# EAGLE library part VME2 (library connect)
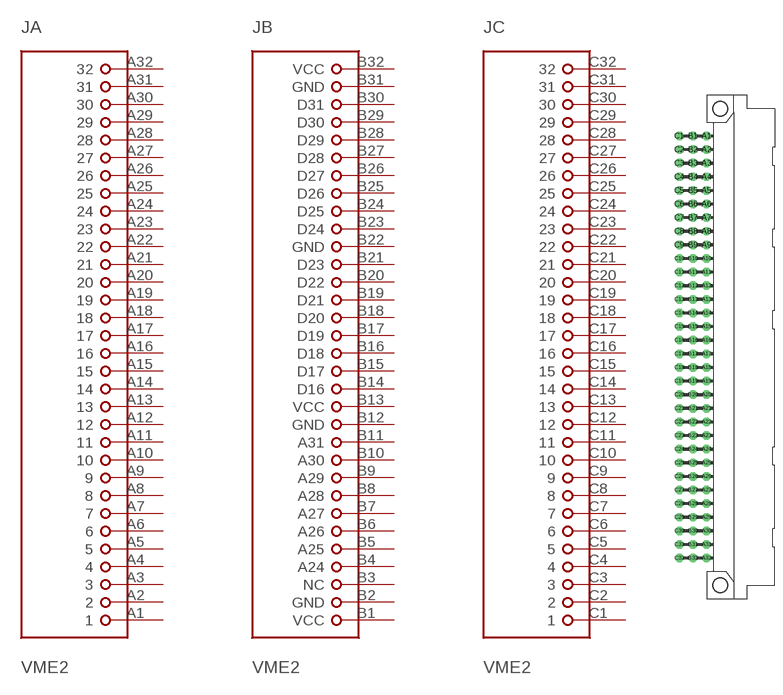
[diagram p17: symbol with the pads of VG96M/90; footprint VG96M/90]

Designator prefix J; gates A=VME2A B=VME2B C=VME2C

## VME2  [VG96M/90]
A1  A:1
A2  A:2
A3  A:3
A4  A:4
A5  A:5
A6  A:6
A7  A:7
A8  A:8
A9  A:9
A10  A:10
A11  A:11
A12  A:12
A13  A:13
A14  A:14
A15  A:15  pwr
A16  A:16
A17  A:17
A18  A:18
A19  A:19
A20  A:20
A21  A:21
A22  A:22
A23  A:23
A24  A:24
A25  A:25
A26  A:26
A27  A:27
A28  A:28
A29  A:29
A30  A:30
A31  A:31
A32  A:32
B1  B:VCC  pwr
B2  B:GND  pwr
B3  B:NC  nc
B4  B:A24  in
B5  B:A25  in
B6  B:A26  in
B7  B:A27  in
B8  B:A28  in
B9  B:A29  in
B10  B:A30  in
B11  B:A31  in
B12  B:GND  pwr
B13  B:VCC  pwr
B14  B:D16  hiz
B15  B:D17  hiz
B16  B:D18  hiz
B17  B:D19  hiz
B18  B:D20  hiz
B19  B:D21  hiz
B20  B:D22  hiz
B21  B:D23  hiz
B22  B:GND  pwr
B23  B:D24  hiz
B24  B:D25  hiz
B25  B:D26  hiz
B26  B:D27  hiz
B27  B:D28  hiz
B28  B:D29  hiz
B29  B:D30  hiz
B30  B:D31  hiz
B31  B:GND  pwr
B32  B:VCC  pwr
C1  C:1
C2  C:2
C3  C:3
C4  C:4
C5  C:5
C6  C:6
C7  C:7
C8  C:8
C9  C:9
C10  C:10
C11  C:11
C12  C:12
C13  C:13
C14  C:14
C15  C:15
C16  C:16
C17  C:17
C18  C:18
C19  C:19
C20  C:20
C21  C:21
C22  C:22
C23  C:23
C24  C:24
C25  C:25
C26  C:26
C27  C:27
C28  C:28
C29  C:29
C30  C:30
C31  C:31
C32  C:32

## Footprint VG96M/90 (pad centres in mm)
drill 1.016 pad 1.575 octagon: A1 -5.08,39.37; A2 -5.08,36.83; A3 -5.08,34.29; A4 -5.08,31.75; A5 -5.08,29.21; A6 -5.08,26.67; A7 -5.08,24.13; A8 -5.08,21.59; A9 -5.08,19.05; A10 -5.08,16.51; A11 -5.08,13.97; A12 -5.08,11.43; A13 -5.08,8.89; A14 -5.08,6.35; A15 -5.08,3.81; A16 -5.08,1.27; A17 -5.08,-1.27; A18 -5.08,-3.81; A19 -5.08,-6.35; A20 -5.08,-8.89; A21 -5.08,-11.43; A22 -5.08,-13.97; A23 -5.08,-16.51; A24 -5.08,-19.05; A25 -5.08,-21.59; A26 -5.08,-24.13; A27 -5.08,-26.67; A28 -5.08,-29.21; A29 -5.08,-31.75; A30 -5.08,-34.29; A31 -5.08,-36.83; A32 -5.08,-39.37; B1 -7.62,39.37; B2 -7.62,36.83; B3 -7.62,34.29; B4 -7.62,31.75; B5 -7.62,29.21; B6 -7.62,26.67; B7 -7.62,24.13; B8 -7.62,21.59; B9 -7.62,19.05; B10 -7.62,16.51; B11 -7.62,13.97; B12 -7.62,11.43; B13 -7.62,8.89; B14 -7.62,6.35; B15 -7.62,3.81; B16 -7.62,1.27; B17 -7.62,-1.27; B18 -7.62,-3.81; B19 -7.62,-6.35; B20 -7.62,-8.89; B21 -7.62,-11.43; B22 -7.62,-13.97; B23 -7.62,-16.51; B24 -7.62,-19.05; B25 -7.62,-21.59; B26 -7.62,-24.13; B27 -7.62,-26.67; B28 -7.62,-29.21; B29 -7.62,-31.75; B30 -7.62,-34.29; B31 -7.62,-36.83; B32 -7.62,-39.37; C1 -10.16,39.37; C2 -10.16,36.83; C3 -10.16,34.29; C4 -10.16,31.75; C5 -10.16,29.21; C6 -10.16,26.67; C7 -10.16,24.13; C8 -10.16,21.59; C9 -10.16,19.05; C10 -10.16,16.51; C11 -10.16,13.97; C12 -10.16,11.43; C13 -10.16,8.89; C14 -10.16,6.35; C15 -10.16,3.81; C16 -10.16,1.27; C17 -10.16,-1.27; C18 -10.16,-3.81; C19 -10.16,-6.35; C20 -10.16,-8.89; C21 -10.16,-11.43; C22 -10.16,-13.97; C23 -10.16,-16.51; C24 -10.16,-19.05; C25 -10.16,-21.59; C26 -10.16,-24.13; C27 -10.16,-26.67; C28 -10.16,-29.21; C29 -10.16,-31.75; C30 -10.16,-34.29; C31 -10.16,-36.83; C32 -10.16,-39.37
hole 2.642 at -2.54,44.45
hole 2.642 at -2.54,-44.45